# Altium schematic symbol library CAP-POLAR.SchLib: 1 symbol
Pins are listed as number, name and electrical type; pins without a type are passive.

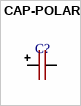
[diagram p0: symbol CAP-POLAR]

## CAP-POLAR
designator C?
footprint CAPPOL-30x35
footprint CAPPOL8x12
footprint CAPPOL-12x25
footprint CAPPOL-10x20
footprint CAP-TAN-A
footprint CAP-TAN-B
footprint CAP-TAN-B2
footprint CAP-TAN-C
footprint CAP-TAN-D
footprint CAP-TAN-R
footprint CAP-TAN-X
footprint CAP 100uF_500V 22x40mm
footprint CAPPOL-16x25
footprint CAP_POL_16x40
footprint CAPPOL-18x40
footprint CAP_POL_36X60
footprint CAP_SMD_Size_E
footprint CAP_SMD_Size_G
pins: 1 +, 2 -